# Altium integrated library Linear Technology Power Management Switching Regulator LTC1174-LTC3901.IntLib: 2647 symbols (part 99 of 364)
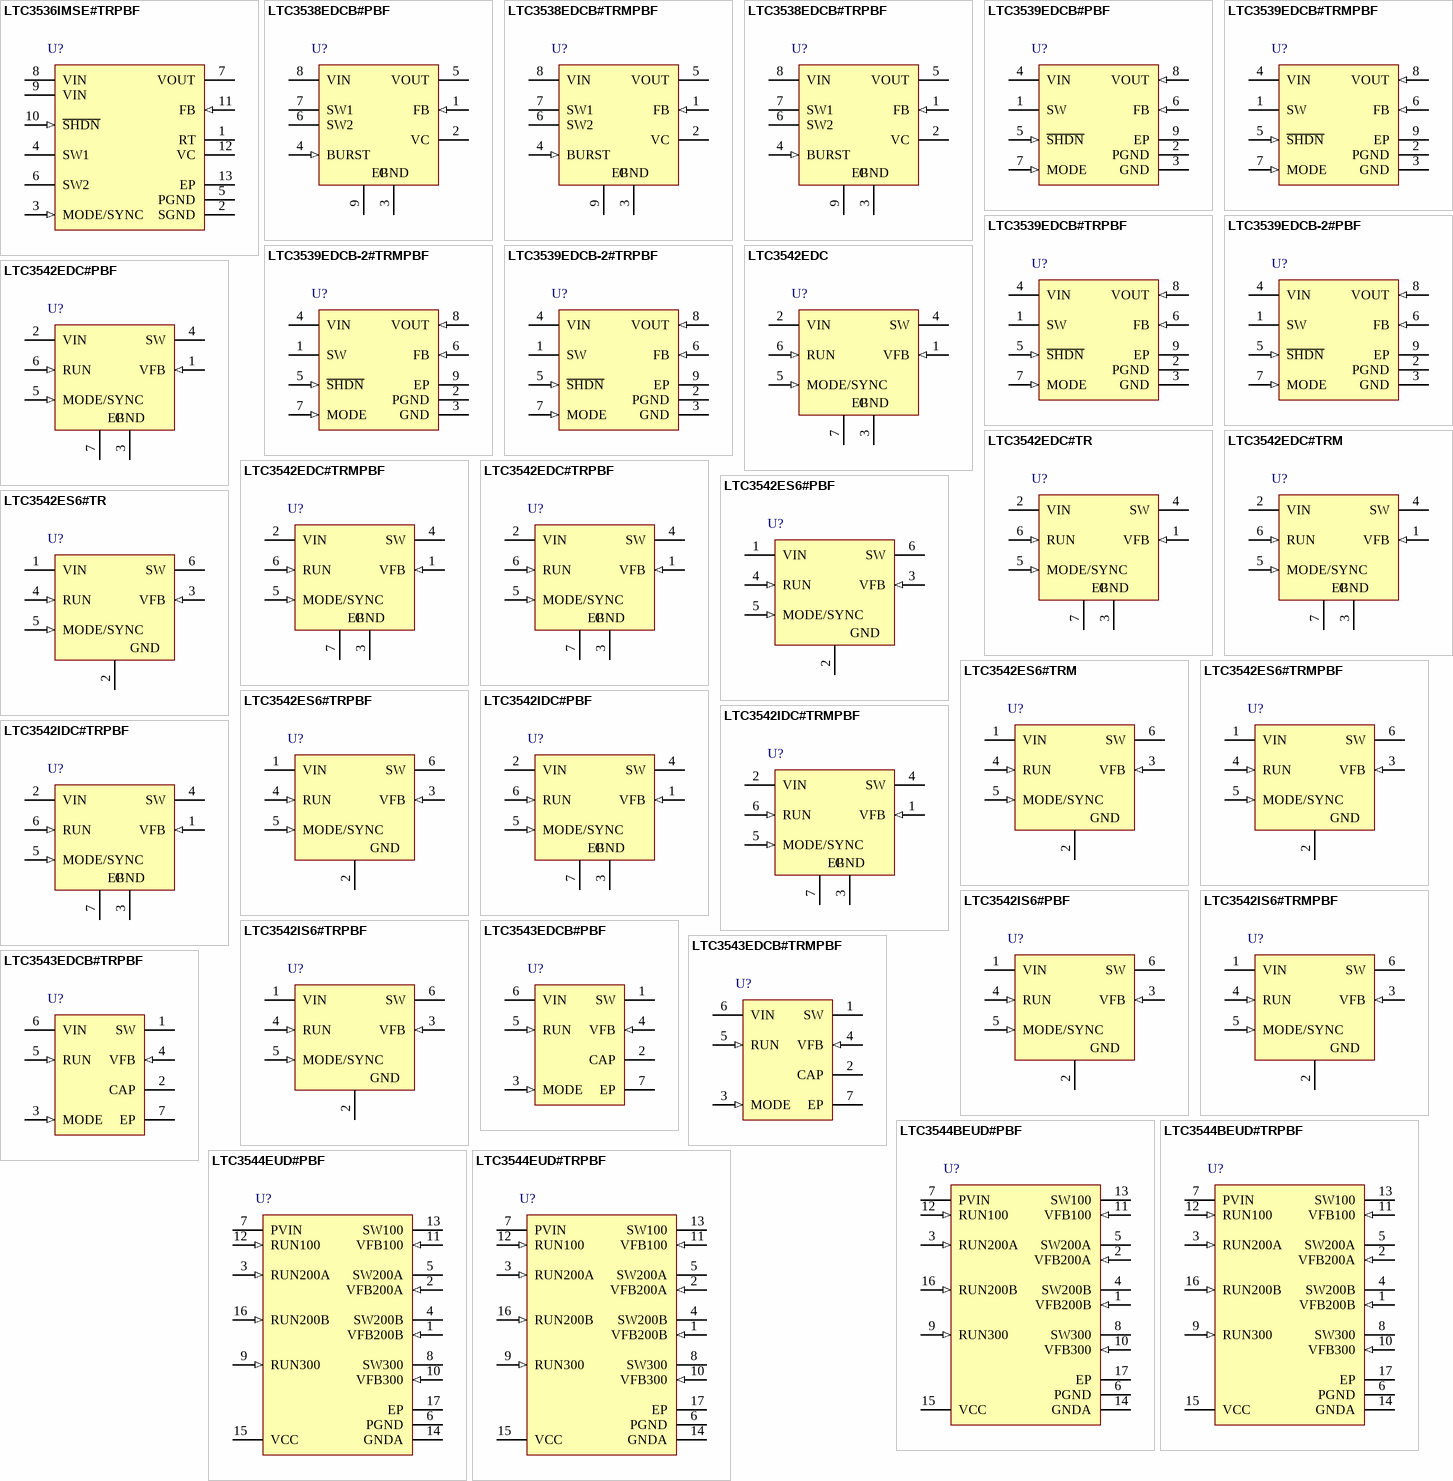
[diagram p265: symbols LTC3536IMSE#TRPBF to LTC3544EUD#TRPBF]

## LTC3544EUD#PBF
designator U?
Quad Synchronous Step-Down Regulator: 2.25 MHz, 300 mA, 200 mA, 200 mA, 100 mA, 16-pin QFN (UD-16), -40 to 85 degC, Pb-Free; Manufacturer: Linear Technology; PartNumber: LTC3544EUD#PBF; Number of Outputs: 4; DatasheetVersion: Rev. A; PackageVersion: Jun-10; PackageReference: UD-16; PackageDescription: 16-Pin Plastic QFN, Body 3 x 3 mm, Pitch 0.5 mm; Supplier 1: Digi-Key; Supplier Part Number 1: LTC3544EUD#PBF-ND; Supplier 2: Farnell; Supplier Part Number 2: 2295072; Supplier 3: Newark; Supplier Part Number 3: 56M7988; RoHS: TRUE; Mounting Technology: Surface Mount; Code_JEDEC: MO-220; ComponentLink1Description: Manufacturer URL; ComponentLink1URL: http://www.linear.com/; ComponentLink2Description: Datasheet; ComponentLink2URL: http://cds.linear.com/docs/en/datasheet/3544fa.pdf; ComponentLink3Description: Package Specification; ComponentLink3URL: http://cds.linear.com/docs/en/packaging/QFN_16_05-08-1691.pdf
footprint LT-UD-16_N (QFN, 16-Leads, Body 3x3mm, Pitch 0.5mm, Thermal Pad 1.45x1.45mm, IPC Medium Density)
footprint LT-UD-16_L (QFN, 16-Leads, Body 3x3mm, Pitch 0.5mm, Thermal Pad 1.45x1.45mm, IPC High Density)
footprint LT-UD-16_M (QFN, 16-Leads, Body 3x3mm, Pitch 0.5mm, Thermal Pad 1.45x1.45mm, IPC Low Density)
pins: 1 VFB200B (in) "200mA Regulator B Feedback Pin. This pin receives the feedback voltage from an external resistive divider across the output", 2 VFB200A (in) "200mA Regulator A Feedback Pin. This pin receives the feedback voltage from an external resistive divider across the output.", 3 RUN200A (in) "200mA Regulator A Enable Pin. Forcing this pin to VIN enables the 200mA regulator (channel A), while forcing it to GND causes the regulator to shut off", 4 SW200B (power) "Switch Node Connection to Inductor for 200mA Regulator B. This pin connects to the drains of the internal power MOSFET switches", 5 SW200A (power) "Switch Node Connection to Inductor for 200mA Regulator A. This pin connects to the drains of the internal power MOSFET switches.", 6 PGND (power) "Power Path Return Pin for Both 200mA Regulators and the 300mA Regulator", 7 PVIN (power) "Power Path Supply Pin for Both 200mA Regulators and the 300mA Regulator. This pin must be closely decoupled to PGND, with a 4.7uF or greater ceramic capacitor.", 8 SW300 (power) "Switch Node Connection to Inductor for 300mA Regulator. This pin connects to the drains of the internal power MOSFET switches", 9 RUN300 (in) "300mA Regulator Enable Pin. Forcing this pin to VIN enables the 300mA regulator, while forcing it to GND causes the regulator to shut off.", 10 VFB300 (in) "300mA Regulator Feedback Pin. This pin receives the feedback voltage from an external resistive divider across the output.", 11 VFB100 (in) "100mA Regulator Feedback Pin. This pin receives the feedback voltage from an external resistive divider across the output.", 12 RUN100 (in) "100mA Regulator Enable Pin. Forcing this pin to VIN enables the 100mA regulator, while forcing it to GND causes the 100mA regulator to shut off.", 13 SW100 (power) "Switch Node Connection to Inductor for 100mA Regulator. This pin connects to the drains of the internal power MOSFET switches.", 14 GNDA (power) "Ground Pin for Internal Reference and Control Circuitry. Power path return for the 100mA regulator", 15 VCC (power) "Supply Pin for Internal Reference and Control Circuitry. Power path supply pin for the 100mA regulator.", 16 RUN200B (in) "200mA Regulator B Enable Pin. Forcing this pin to VIN enables the 200mA regulator (channel B), while forcing it to GND causes the regulator to shut off.", 17 EP (power) "Ground. Must be soldered to PCB"

## LTC3544EUD#TRPBF
designator U?
Quad Synchronous Step-Down Regulator: 2.25 MHz, 300 mA, 200 mA, 200 mA, 100 mA, 16-pin QFN (UD-16), -40 to 85 degC, Pb-Free, Tape and Reel; Manufacturer: Linear Technology; PartNumber: LTC3544EUD#TRPBF; Number of Outputs: 4; DatasheetVersion: Rev. A; PackageVersion: Jun-10; PackageReference: UD-16; PackageDescription: 16-Pin Plastic QFN, Body 3 x 3 mm, Pitch 0.5 mm; Supplier 1: Digi-Key; Supplier Part Number 1: LTC3544EUD#TRPBF-ND; Packing: Tape and Reel; RoHS: TRUE; Mounting Technology: Surface Mount; Code_JEDEC: MO-220; ComponentLink1Description: Manufacturer URL; ComponentLink1URL: http://www.linear.com/; ComponentLink2Description: Datasheet; ComponentLink2URL: http://cds.linear.com/docs/en/datasheet/3544fa.pdf; ComponentLink3Description: Package Specification; ComponentLink3URL: http://cds.linear.com/docs/en/packaging/QFN_16_05-08-1691.pdf
footprint LT-UD-16_N (QFN, 16-Leads, Body 3x3mm, Pitch 0.5mm, Thermal Pad 1.45x1.45mm, IPC Medium Density)
footprint LT-UD-16_L (QFN, 16-Leads, Body 3x3mm, Pitch 0.5mm, Thermal Pad 1.45x1.45mm, IPC High Density)
footprint LT-UD-16_M (QFN, 16-Leads, Body 3x3mm, Pitch 0.5mm, Thermal Pad 1.45x1.45mm, IPC Low Density)
pins: 1 VFB200B (in) "200mA Regulator B Feedback Pin. This pin receives the feedback voltage from an external resistive divider across the output", 2 VFB200A (in) "200mA Regulator A Feedback Pin. This pin receives the feedback voltage from an external resistive divider across the output.", 3 RUN200A (in) "200mA Regulator A Enable Pin. Forcing this pin to VIN enables the 200mA regulator (channel A), while forcing it to GND causes the regulator to shut off", 4 SW200B (power) "Switch Node Connection to Inductor for 200mA Regulator B. This pin connects to the drains of the internal power MOSFET switches", 5 SW200A (power) "Switch Node Connection to Inductor for 200mA Regulator A. This pin connects to the drains of the internal power MOSFET switches.", 6 PGND (power) "Power Path Return Pin for Both 200mA Regulators and the 300mA Regulator", 7 PVIN (power) "Power Path Supply Pin for Both 200mA Regulators and the 300mA Regulator. This pin must be closely decoupled to PGND, with a 4.7uF or greater ceramic capacitor.", 8 SW300 (power) "Switch Node Connection to Inductor for 300mA Regulator. This pin connects to the drains of the internal power MOSFET switches", 9 RUN300 (in) "300mA Regulator Enable Pin. Forcing this pin to VIN enables the 300mA regulator, while forcing it to GND causes the regulator to shut off.", 10 VFB300 (in) "300mA Regulator Feedback Pin. This pin receives the feedback voltage from an external resistive divider across the output.", 11 VFB100 (in) "100mA Regulator Feedback Pin. This pin receives the feedback voltage from an external resistive divider across the output.", 12 RUN100 (in) "100mA Regulator Enable Pin. Forcing this pin to VIN enables the 100mA regulator, while forcing it to GND causes the 100mA regulator to shut off.", 13 SW100 (power) "Switch Node Connection to Inductor for 100mA Regulator. This pin connects to the drains of the internal power MOSFET switches.", 14 GNDA (power) "Ground Pin for Internal Reference and Control Circuitry. Power path return for the 100mA regulator", 15 VCC (power) "Supply Pin for Internal Reference and Control Circuitry. Power path supply pin for the 100mA regulator.", 16 RUN200B (in) "200mA Regulator B Enable Pin. Forcing this pin to VIN enables the 200mA regulator (channel B), while forcing it to GND causes the regulator to shut off.", 17 EP (power) "Ground. Must be soldered to PCB"

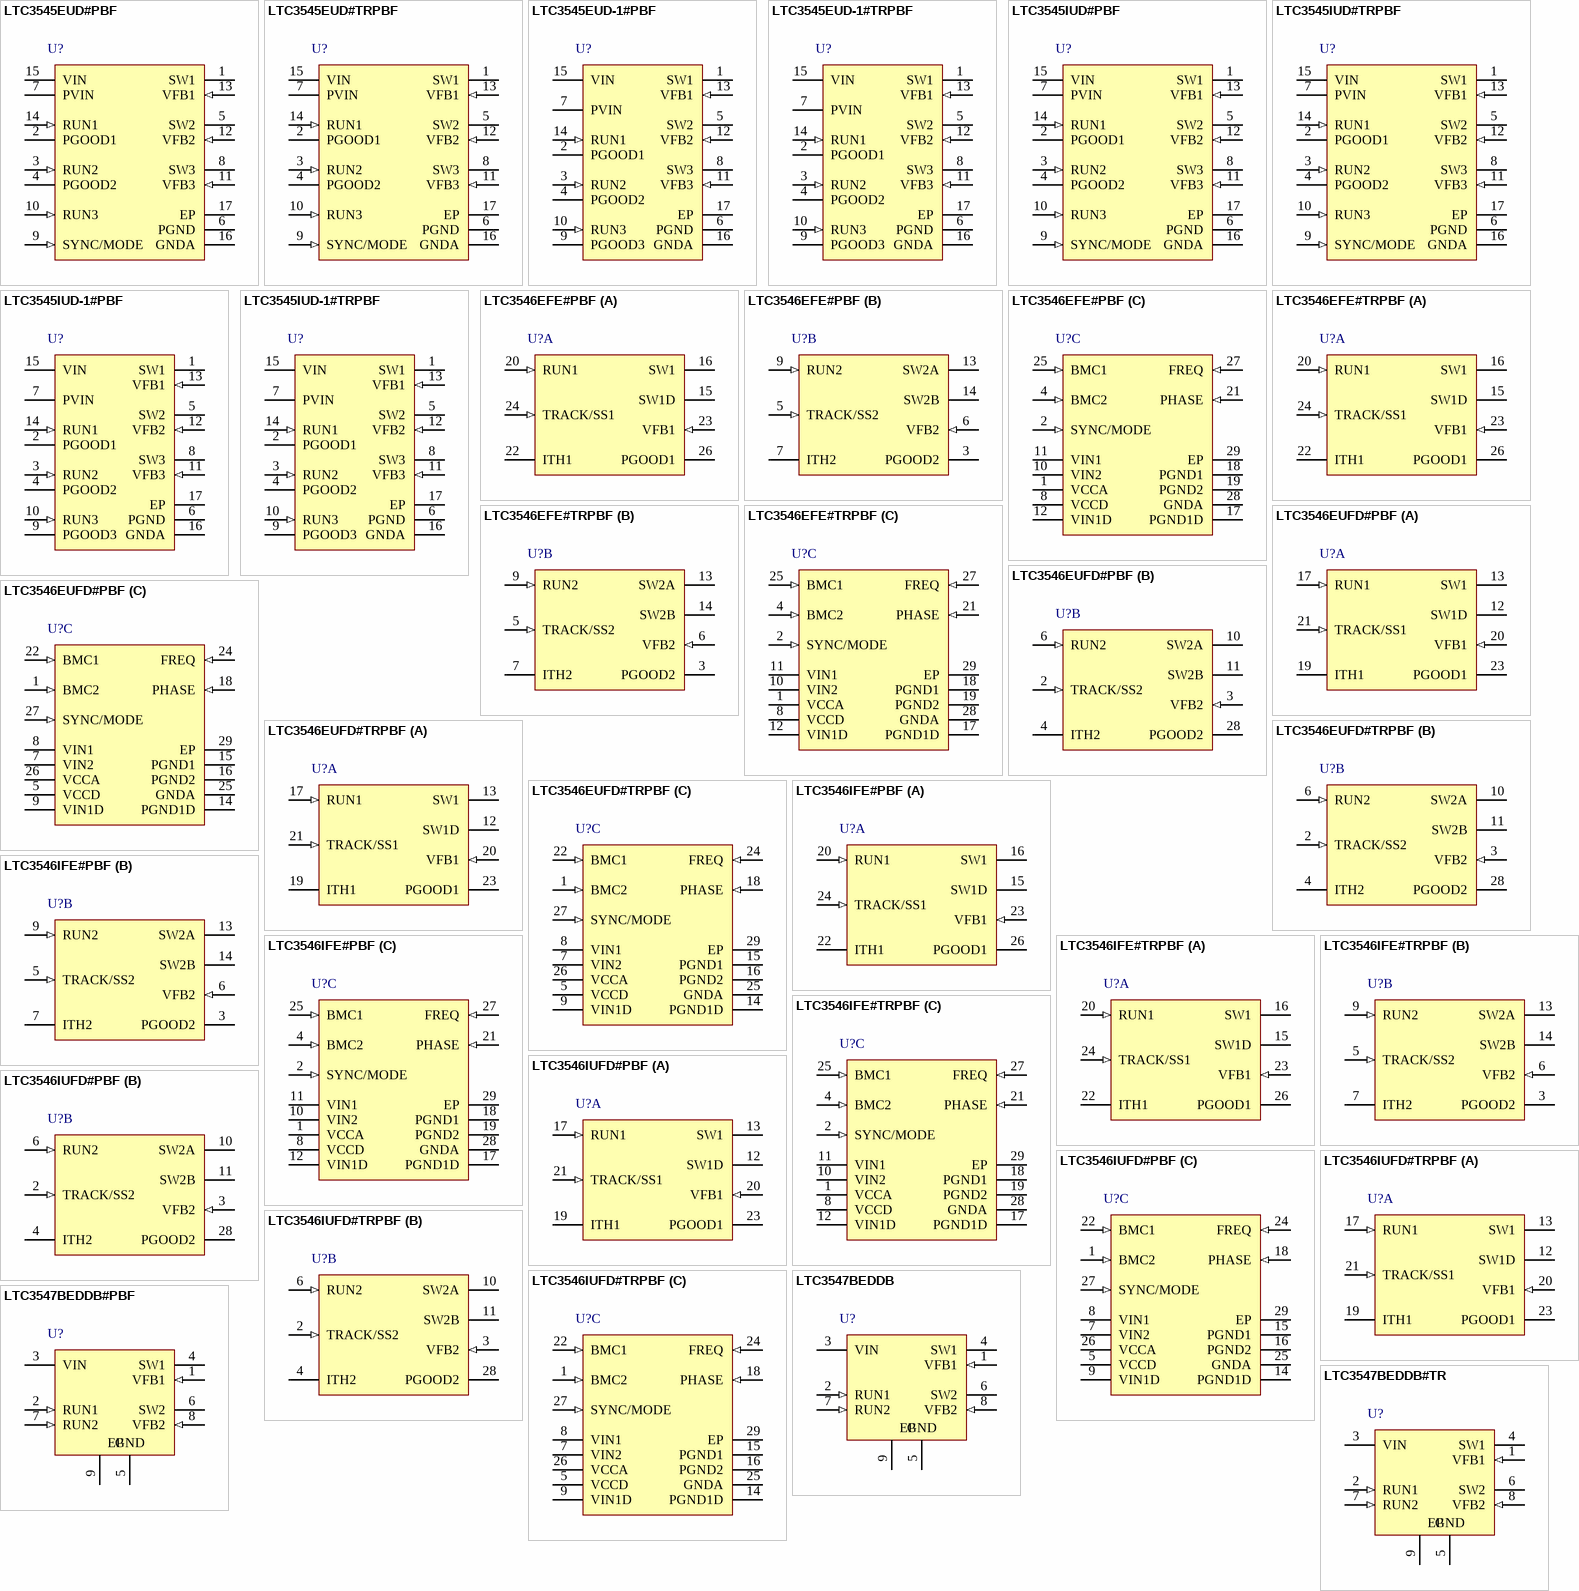
[diagram p32: symbols LTC3545EUD#PBF to LTC3547BEDDB#TR]

## LTC3545EUD#PBF
designator U?
Triple 800 mA Synchronous Step-Down Regulator - 2.25 MHz, 16-pin QFN (UD-16-EPV-AA), -40 to 125 degC, Pb-Free; Manufacturer: Linear Technology; PartNumber: LTC3545EUD#PBF; Number of Outputs: 3; DatasheetVersion: Rev. B; PackageVersion: Rev. A, 06/2010; PackageReference: UD-16; PackageDescription: 16-Pin Plastic QFN, Body 3 x 3 mm, Pitch 0.5 mm; Supplier 1: Digi-Key; Supplier Part Number 1: LTC3545EUD#PBF-ND; Supplier 2: Farnell; Supplier Part Number 2: 1628761; Supplier 3: Newark; Supplier Part Number 3: 75M4527; RoHS: TRUE; Mounting Technology: Surface Mount; Code_JEDEC: MO-220; ComponentLink1Description: Manufacturer URL; ComponentLink1URL: http://www.linear.com/; ComponentLink2Description: Datasheet; ComponentLink2URL: http://cds.linear.com/docs/en/datasheet/35451fb.pdf; ComponentLink3Description: Package Specification; ComponentLink3URL: http://cds.linear.com/docs/en/packaging/QFN_16_05-08-1700.pdf
footprint LT-UD-16-EPV-AA_N (QFN, 16-Leads, Body 3.1x3.1mm, Pitch 0.5mm, Thermal Pad 1.65x1.65mm, IPC Medium Density)
footprint LT-UD-16-EPV-AA_L (QFN, 16-Leads, Body 3.1x3.1mm, Pitch 0.5mm, Thermal Pad 1.65x1.65mm, IPC High Density)
footprint LT-UD-16-EPV-AA_M (QFN, 16-Leads, Body 3.1x3.1mm, Pitch 0.5mm, Thermal Pad 1.65x1.65mm, IPC Low Density)
pins: 1 SW1 (power) "Switch Node Connection to Inductor for Regulator 1. This pin connects to the internal power MOSFET switches.", 2 PGOOD1 (oc) "This open-drain output voltage is pulled to a logic low when VFB1 is below 0.54V (VOUT1 is below 90% of regulated level).", 3 RUN2 (in) "Regulator 2 Enable Pin. Apply a voltage greater than VRUN(HIGH) to enable this regulator", 4 PGOOD2 (oc) "This open-drain output voltage is pulled to a logic low when VFB2 is below 0.54V (VOUT2 is below 90% of regulated level).", 5 SW2 (power) "Switch Node Connection to Inductor for Regulator 2. This pin connects to the internal power MOSFET switches.", 6 PGND (power) "Regulators 2 and 3 Power Path Return.", 7 PVIN (power) "Power Path Supply Pin for Regulators 2 and 3. This pin must be closely decoupled to PGND, with a 4.7uF or greater ceramic capacitor.", 8 SW3 (power) "Switch Node Connection to Inductor for Regulator 3. This pin connects to the internal power MOSFET switches.", 9 SYNC/MODE (in) "This open-Mode Select and External Clock Input. When pulled low, part operates in Burst Mode operation. When pulled high, part operates in pulse skipping mode. When driven by a 1MHz to 3MHz external clock, the part operates (See Datasheet)", 10 RUN3 (in) "Regulator 3 Enable Pin. Apply a voltage greater than VRUN(HIGH) to enable this regulator", 11 VFB3 (in) "Regulator 3 Feedback Pin. This pin receives the feedback voltage from an external resistive divider across the output.", 12 VFB2 (in) "Regulator 2 Feedback Pin. This pin receives the feedback voltage from an external resistive divider across the output.", 13 VFB1 (in) "Regulator 1 Feedback Pin. This pin receives the feedback voltage from an external resistive divider across the output.", 14 RUN1 (in) "Regulator 1 Enable Pin. Apply a voltage greater than VRUN(HIGH) to enable this regulator", 15 VIN (power) "Supply Pin for Internal Reference and Control Circuitry. Power path supply for regulator 1.", 16 GNDA (power) "Ground Pin for Internal Reference and Control Circuitry. Power path return for regulator 1.", 17 EP (power) "GND. Must be soldered to the PCB."

## LTC3545EUD#TRPBF
designator U?
Triple 800 mA Synchronous Step-Down Regulator - 2.25 MHz, 16-pin QFN (UD-16-EPV-AA), -40 to 125 degC, Pb-Free, Tape and Reel; Manufacturer: Linear Technology; PartNumber: LTC3545EUD#TRPBF; Number of Outputs: 3; DatasheetVersion: Rev. B; PackageVersion: Rev. A, 06/2010; PackageReference: UD-16; PackageDescription: 16-Pin Plastic QFN, Body 3 x 3 mm, Pitch 0.5 mm; Supplier 1: Digi-Key; Supplier Part Number 1: LTC3545EUD#TRPBF-ND; Supplier 2: Newark; Supplier Part Number 2: 75M4528; Packing: Tape and Reel; RoHS: TRUE; Mounting Technology: Surface Mount; Code_JEDEC: MO-220; ComponentLink1Description: Manufacturer URL; ComponentLink1URL: http://www.linear.com/; ComponentLink2Description: Datasheet; ComponentLink2URL: http://cds.linear.com/docs/en/datasheet/35451fb.pdf; ComponentLink3Description: Package Specification; ComponentLink3URL: http://cds.linear.com/docs/en/packaging/QFN_16_05-08-1700.pdf
footprint LT-UD-16-EPV-AA_N (QFN, 16-Leads, Body 3.1x3.1mm, Pitch 0.5mm, Thermal Pad 1.65x1.65mm, IPC Medium Density)
footprint LT-UD-16-EPV-AA_L (QFN, 16-Leads, Body 3.1x3.1mm, Pitch 0.5mm, Thermal Pad 1.65x1.65mm, IPC High Density)
footprint LT-UD-16-EPV-AA_M (QFN, 16-Leads, Body 3.1x3.1mm, Pitch 0.5mm, Thermal Pad 1.65x1.65mm, IPC Low Density)
pins: 1 SW1 (power) "Switch Node Connection to Inductor for Regulator 1. This pin connects to the internal power MOSFET switches.", 2 PGOOD1 (oc) "This open-drain output voltage is pulled to a logic low when VFB1 is below 0.54V (VOUT1 is below 90% of regulated level).", 3 RUN2 (in) "Regulator 2 Enable Pin. Apply a voltage greater than VRUN(HIGH) to enable this regulator", 4 PGOOD2 (oc) "This open-drain output voltage is pulled to a logic low when VFB2 is below 0.54V (VOUT2 is below 90% of regulated level).", 5 SW2 (power) "Switch Node Connection to Inductor for Regulator 2. This pin connects to the internal power MOSFET switches.", 6 PGND (power) "Regulators 2 and 3 Power Path Return.", 7 PVIN (power) "Power Path Supply Pin for Regulators 2 and 3. This pin must be closely decoupled to PGND, with a 4.7uF or greater ceramic capacitor.", 8 SW3 (power) "Switch Node Connection to Inductor for Regulator 3. This pin connects to the internal power MOSFET switches.", 9 SYNC/MODE (in) "This open-Mode Select and External Clock Input. When pulled low, part operates in Burst Mode operation. When pulled high, part operates in pulse skipping mode. When driven by a 1MHz to 3MHz external clock, the part operates (See Datasheet)", 10 RUN3 (in) "Regulator 3 Enable Pin. Apply a voltage greater than VRUN(HIGH) to enable this regulator", 11 VFB3 (in) "Regulator 3 Feedback Pin. This pin receives the feedback voltage from an external resistive divider across the output.", 12 VFB2 (in) "Regulator 2 Feedback Pin. This pin receives the feedback voltage from an external resistive divider across the output.", 13 VFB1 (in) "Regulator 1 Feedback Pin. This pin receives the feedback voltage from an external resistive divider across the output.", 14 RUN1 (in) "Regulator 1 Enable Pin. Apply a voltage greater than VRUN(HIGH) to enable this regulator", 15 VIN (power) "Supply Pin for Internal Reference and Control Circuitry. Power path supply for regulator 1.", 16 GNDA (power) "Ground Pin for Internal Reference and Control Circuitry. Power path return for regulator 1.", 17 EP (power) "GND. Must be soldered to the PCB."

## LTC3545EUD-1#PBF
designator U?
Triple 800 mA Synchronous Step-Down Regulator - 2.25 MHz, 16-pin QFN (UD-16-EPV-AA), -40 to 125 degC, Pb-Free; Manufacturer: Linear Technology; PartNumber: LTC3545EUD-1#PBF; Number of Outputs: 3; DatasheetVersion: Rev. B; PackageVersion: Rev. A, 06/2010; PackageReference: UD-16; PackageDescription: 16-Pin Plastic QFN, Body 3 x 3 mm, Pitch 0.5 mm; Supplier 1: Digi-Key; Supplier Part Number 1: LTC3545EUD-1#PBF-ND; Supplier 2: Farnell; Supplier Part Number 2: 2115873; Supplier 3: Farnell; Supplier Part Number 3: 1572745; Supplier 4: Newark; Supplier Part Number 4: 75M4525; RoHS: TRUE; Mounting Technology: Surface Mount; Code_JEDEC: MO-220; ComponentLink1Description: Manufacturer URL; ComponentLink1URL: http://www.linear.com/; ComponentLink2Description: Datasheet; ComponentLink2URL: http://cds.linear.com/docs/en/datasheet/35451fb.pdf; ComponentLink3Description: Package Specification; ComponentLink3URL: http://cds.linear.com/docs/en/packaging/QFN_16_05-08-1700.pdf
footprint LT-UD-16-EPV-AA_N (QFN, 16-Leads, Body 3.1x3.1mm, Pitch 0.5mm, Thermal Pad 1.65x1.65mm, IPC Medium Density)
footprint LT-UD-16-EPV-AA_L (QFN, 16-Leads, Body 3.1x3.1mm, Pitch 0.5mm, Thermal Pad 1.65x1.65mm, IPC High Density)
footprint LT-UD-16-EPV-AA_M (QFN, 16-Leads, Body 3.1x3.1mm, Pitch 0.5mm, Thermal Pad 1.65x1.65mm, IPC Low Density)
pins: 1 SW1 (power) "Switch Node Connection to Inductor for Regulator 1. This pin connects to the internal power MOSFET switches.", 2 PGOOD1 (oc) "This open-drain output voltage is pulled to a logic low when VFB1 is below 0.54V (VOUT1 is below 90% of regulated level).", 3 RUN2 (in) "Regulator 2 Enable Pin. Apply a voltage greater than VRUN(HIGH) to enable this regulator", 4 PGOOD2 (oc) "This open-drain output voltage is pulled to a logic low when VFB2 is below 0.54V (VOUT2 is below 90% of regulated level).", 5 SW2 (power) "Switch Node Connection to Inductor for Regulator 2. This pin connects to the internal power MOSFET switches.", 6 PGND (power) "Regulators 2 and 3 Power Path Return.", 7 PVIN (power) "Power Path Supply Pin for Regulators 2 and 3. This pin must be closely decoupled to PGND, with a 4.7uF or greater ceramic capacitor.", 8 SW3 (power) "Switch Node Connection to Inductor for Regulator 3. This pin connects to the internal power MOSFET switches.", 9 PGOOD3 (oc) "This open-drain output voltage is pulled to a logic low when VFB3 is below 0.54V (VOUT3 is below 90% of regulated level). The LTC3545-1 operates in Burst Mode operation only.", 10 RUN3 (in) "Regulator 3 Enable Pin. Apply a voltage greater than VRUN(HIGH) to enable this regulator", 11 VFB3 (in) "Regulator 3 Feedback Pin. This pin receives the feedback voltage from an external resistive divider across the output.", 12 VFB2 (in) "Regulator 2 Feedback Pin. This pin receives the feedback voltage from an external resistive divider across the output.", 13 VFB1 (in) "Regulator 1 Feedback Pin. This pin receives the feedback voltage from an external resistive divider across the output.", 14 RUN1 (in) "Regulator 1 Enable Pin. Apply a voltage greater than VRUN(HIGH) to enable this regulator", 15 VIN (power) "Supply Pin for Internal Reference and Control Circuitry. Power path supply for regulator 1.", 16 GNDA (power) "Ground Pin for Internal Reference and Control Circuitry. Power path return for regulator 1.", 17 EP (power) "GND. Must be soldered to the PCB."

## LTC3545EUD-1#TRPBF
designator U?
Triple 800 mA Synchronous Step-Down Regulator - 2.25 MHz, 16-pin QFN (UD-16-EPV-AA), -40 to 125 degC, Pb-Free, Tape and Reel; Manufacturer: Linear Technology; PartNumber: LTC3545EUD-1#TRPBF; Number of Outputs: 3; DatasheetVersion: Rev. B; PackageVersion: Rev. A, 06/2010; PackageReference: UD-16; PackageDescription: 16-Pin Plastic QFN, Body 3 x 3 mm, Pitch 0.5 mm; Supplier 1: Digi-Key; Supplier Part Number 1: LTC3545EUD-1#TRPBF-ND; Supplier 2: Newark; Supplier Part Number 2: 75M4526; Packing: Tape and Reel; RoHS: TRUE; Mounting Technology: Surface Mount; Code_JEDEC: MO-220; ComponentLink1Description: Manufacturer URL; ComponentLink1URL: http://www.linear.com/; ComponentLink2Description: Datasheet; ComponentLink2URL: http://cds.linear.com/docs/en/datasheet/35451fb.pdf; ComponentLink3Description: Package Specification; ComponentLink3URL: http://cds.linear.com/docs/en/packaging/QFN_16_05-08-1700.pdf
footprint LT-UD-16-EPV-AA_N (QFN, 16-Leads, Body 3.1x3.1mm, Pitch 0.5mm, Thermal Pad 1.65x1.65mm, IPC Medium Density)
footprint LT-UD-16-EPV-AA_L (QFN, 16-Leads, Body 3.1x3.1mm, Pitch 0.5mm, Thermal Pad 1.65x1.65mm, IPC High Density)
footprint LT-UD-16-EPV-AA_M (QFN, 16-Leads, Body 3.1x3.1mm, Pitch 0.5mm, Thermal Pad 1.65x1.65mm, IPC Low Density)
pins: 1 SW1 (power) "Switch Node Connection to Inductor for Regulator 1. This pin connects to the internal power MOSFET switches.", 2 PGOOD1 (oc) "This open-drain output voltage is pulled to a logic low when VFB1 is below 0.54V (VOUT1 is below 90% of regulated level).", 3 RUN2 (in) "Regulator 2 Enable Pin. Apply a voltage greater than VRUN(HIGH) to enable this regulator", 4 PGOOD2 (oc) "This open-drain output voltage is pulled to a logic low when VFB2 is below 0.54V (VOUT2 is below 90% of regulated level).", 5 SW2 (power) "Switch Node Connection to Inductor for Regulator 2. This pin connects to the internal power MOSFET switches.", 6 PGND (power) "Regulators 2 and 3 Power Path Return.", 7 PVIN (power) "Power Path Supply Pin for Regulators 2 and 3. This pin must be closely decoupled to PGND, with a 4.7uF or greater ceramic capacitor.", 8 SW3 (power) "Switch Node Connection to Inductor for Regulator 3. This pin connects to the internal power MOSFET switches.", 9 PGOOD3 (oc) "This open-drain output voltage is pulled to a logic low when VFB3 is below 0.54V (VOUT3 is below 90% of regulated level). The LTC3545-1 operates in Burst Mode operation only.", 10 RUN3 (in) "Regulator 3 Enable Pin. Apply a voltage greater than VRUN(HIGH) to enable this regulator", 11 VFB3 (in) "Regulator 3 Feedback Pin. This pin receives the feedback voltage from an external resistive divider across the output.", 12 VFB2 (in) "Regulator 2 Feedback Pin. This pin receives the feedback voltage from an external resistive divider across the output.", 13 VFB1 (in) "Regulator 1 Feedback Pin. This pin receives the feedback voltage from an external resistive divider across the output.", 14 RUN1 (in) "Regulator 1 Enable Pin. Apply a voltage greater than VRUN(HIGH) to enable this regulator", 15 VIN (power) "Supply Pin for Internal Reference and Control Circuitry. Power path supply for regulator 1.", 16 GNDA (power) "Ground Pin for Internal Reference and Control Circuitry. Power path return for regulator 1.", 17 EP (power) "GND. Must be soldered to the PCB."